# Altium footprint library Vishay Roederstein Electrolytic Solder Ring Capacitor.PcbLib: 11 footprints
Each footprint in its own frame and in the unit in brackets; x right, y up, seen from the top. Pads: shape width x height; smd on the part's side, far side on the other; paste and mask are expansions set on the pad; w line width, h text height; cw(c..) or ccw(c..) is an arc to the next point about the centre after c.
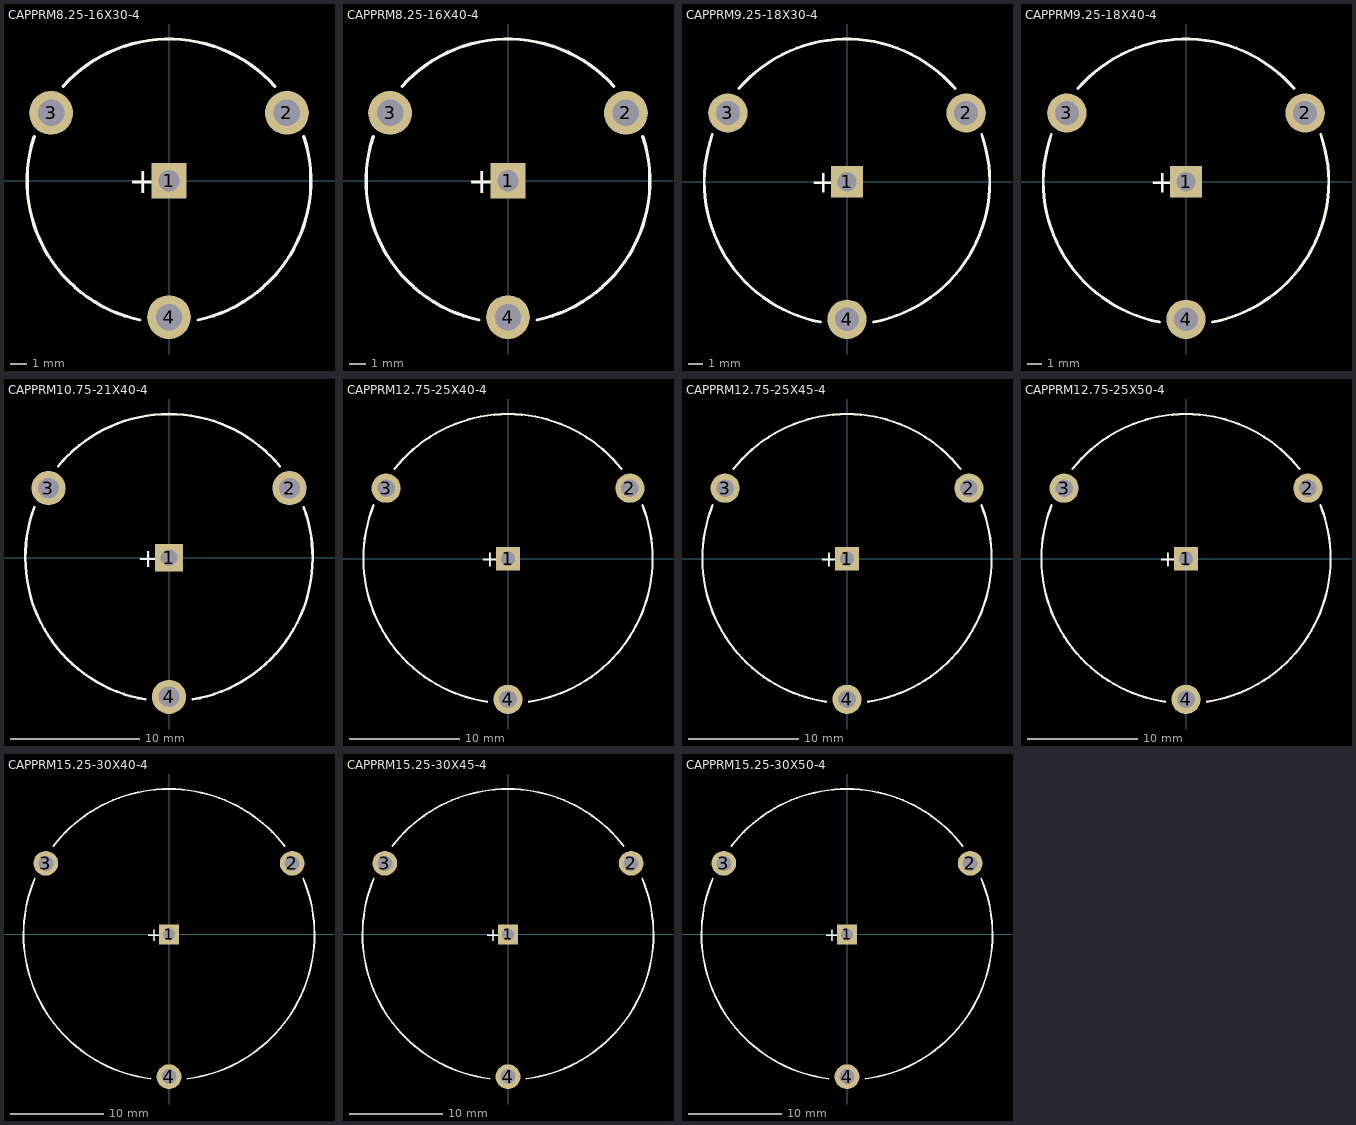
[diagram p0: the footprints below, top view; thin cyan lines are the x and y axes]

## CAPPRM8.25-16X30-4 [mm] "Capacitor, Electrolytic, Radial, Solder Ring; Body 16 x 30 mm (Dia.xH typ); Pin Spacing 8.25 mm (typ)"
height 32
pads (4):
  rect 2.15x2.15 hole 1.3: 1(0,0)
  round 2.65 hole 1.6: 2(7.145,4.125) 3(-7.145,4.125) 4(0,-8.25)
Top Overlay:
  lines w0.2: -8.168,2.692 ccw(c0,0) -1.752,-8.42 ; -6.415,5.727 cw(c0,0) 6.415,5.727 ; 1.752,-8.42 ccw(c0,0) 8.168,2.692
  text "+" at -2.45,-0.75 h1.5

## CAPPRM8.25-16X40-4 [mm] "Capacitor, Electrolytic, Radial, Solder Ring; Body 16 x 40 mm (Dia.xH typ); Pin Spacing 8.25 mm (typ)"
height 42
pads (4):
  rect 2.15x2.15 hole 1.3: 1(0,0)
  round 2.65 hole 1.6: 2(7.145,4.125) 3(-7.145,4.125) 4(0,-8.25)
Top Overlay:
  lines w0.2: -8.168,2.692 ccw(c0,0) -1.752,-8.42 ; -6.415,5.727 cw(c0,0) 6.415,5.727 ; 1.752,-8.42 ccw(c0,0) 8.168,2.692
  text "+" at -2.45,-0.75 h1.5

## CAPPRM9.25-18X30-4 [mm] "Capacitor, Electrolytic, Radial, Solder Ring; Body 18 x 30 mm (Dia.xH typ); Pin Spacing 9.25 mm (typ)"
height 32
pads (4):
  rect 2.15x2.15 hole 1.3: 1(0,0)
  round 2.65 hole 1.6: 2(8.011,4.625) 3(-8.011,4.625) 4(0,-9.25)
Top Overlay:
  lines w0.2: -9.062,3.17 ccw(c0,0) -1.786,-9.432 ; -7.276,6.263 cw(c0,0) 7.276,6.263 ; 1.786,-9.432 ccw(c0,0) 9.062,3.17
  text "+" at -2.45,-0.75 h1.5

## CAPPRM9.25-18X40-4 [mm] "Capacitor, Electrolytic, Radial, Solder Ring; Body 18 x 40 mm (Dia.xH typ); Pin Spacing 9.25 mm (typ)"
height 42
pads (4):
  rect 2.15x2.15 hole 1.3: 1(0,0)
  round 2.65 hole 1.6: 2(8.011,4.625) 3(-8.011,4.625) 4(0,-9.25)
Top Overlay:
  lines w0.2: -9.062,3.17 ccw(c0,0) -1.786,-9.432 ; -7.276,6.263 cw(c0,0) 7.276,6.263 ; 1.786,-9.432 ccw(c0,0) 9.062,3.17
  text "+" at -2.45,-0.75 h1.5

## CAPPRM10.75-21X40-4 [mm] "Capacitor, Electrolytic, Radial, Solder Ring; Body 21 x 40 mm (Dia.xH typ); Pin Spacing 10.75 mm (typ)"
height 42
pads (4):
  rect 2.15x2.15 hole 1.3: 1(0,0)
  round 2.65 hole 1.6: 2(9.31,5.375) 3(-9.31,5.375) 4(0,-10.75)
Top Overlay:
  lines w0.2: -10.398,3.883 ccw(c0,0) -1.836,-10.947 ; -8.562,7.064 cw(c0,0) 8.562,7.064 ; 1.836,-10.947 ccw(c0,0) 10.398,3.883
  text "+" at -2.45,-0.75 h1.5

## CAPPRM12.75-25X40-4 [mm] "Capacitor, Electrolytic, Radial, Solder Ring; Body 25 x 40 mm (Dia.xH typ); Pin Spacing 12.75 mm (typ)"
height 42
pads (4):
  rect 2.15x2.15 hole 1.3: 1(0,0)
  round 2.65 hole 1.6: 2(11.042,6.375) 3(-11.042,6.375) 4(0,-12.75)
Top Overlay:
  lines w0.2: -12.176,4.832 ccw(c0,0) -1.904,-12.961 ; -10.273,8.129 cw(c0,0) 10.273,8.129 ; 1.904,-12.961 ccw(c0,0) 12.176,4.832
  text "+" at -2.45,-0.75 h1.5

## CAPPRM12.75-25X45-4 [mm] "Capacitor, Electrolytic, Radial, Solder Ring; Body 25 x 45 mm (Dia.xH typ); Pin Spacing 12.75 mm (typ)"
height 48
pads (4):
  rect 2.15x2.15 hole 1.3: 1(0,0)
  round 2.65 hole 1.6: 2(11.042,6.375) 3(-11.042,6.375) 4(0,-12.75)
Top Overlay:
  lines w0.2: -12.176,4.832 ccw(c0,0) -1.904,-12.961 ; -10.273,8.129 cw(c0,0) 10.273,8.129 ; 1.904,-12.961 ccw(c0,0) 12.176,4.832
  text "+" at -2.45,-0.75 h1.5

## CAPPRM12.75-25X50-4 [mm] "Capacitor, Electrolytic, Radial, Solder Ring; Body 25 x 50 mm (Dia.xH typ); Pin Spacing 12.75 mm (typ)"
height 53
pads (4):
  rect 2.15x2.15 hole 1.3: 1(0,0)
  round 2.65 hole 1.6: 2(11.042,6.375) 3(-11.042,6.375) 4(0,-12.75)
Top Overlay:
  lines w0.2: -12.176,4.832 ccw(c0,0) -1.904,-12.961 ; -10.273,8.129 cw(c0,0) 10.273,8.129 ; 1.904,-12.961 ccw(c0,0) 12.176,4.832
  text "+" at -2.45,-0.75 h1.5

## CAPPRM15.25-30X40-4 [mm] "Capacitor, Electrolytic, Radial, Solder Ring; Body 30 x 40 mm (Dia.xH typ); Pin Spacing 15.25 mm (typ)"
height 42
pads (4):
  rect 2.15x2.15 hole 1.3: 1(0,0)
  round 2.65 hole 1.6: 2(13.207,7.625) 3(-13.207,7.625) 4(0,-15.25)
Top Overlay:
  lines w0.2: -14.394,6.014 ccw(c0,0) -1.989,-15.473 ; -12.405,9.459 cw(c0,0) 12.405,9.459 ; 1.989,-15.473 ccw(c0,0) 14.394,6.014
  text "+" at -2.45,-0.75 h1.5

## CAPPRM15.25-30X45-4 [mm] "Capacitor, Electrolytic, Radial, Solder Ring; Body 30 x 45 mm (Dia.xH typ); Pin Spacing 15.25 mm (typ)"
height 48
pads (4):
  rect 2.15x2.15 hole 1.3: 1(0,0)
  round 2.65 hole 1.6: 2(13.207,7.625) 3(-13.207,7.625) 4(0,-15.25)
Top Overlay:
  lines w0.2: -14.394,6.014 ccw(c0,0) -1.989,-15.473 ; -12.405,9.459 cw(c0,0) 12.405,9.459 ; 1.989,-15.473 ccw(c0,0) 14.394,6.014
  text "+" at -2.45,-0.75 h1.5

## CAPPRM15.25-30X50-4 [mm] "Capacitor, Electrolytic, Radial, Solder Ring; Body 30 x 50 mm (Dia.xH typ); Pin Spacing 15.25 mm (typ)"
height 53
pads (4):
  rect 2.15x2.15 hole 1.3: 1(0,0)
  round 2.65 hole 1.6: 2(13.207,7.625) 3(-13.207,7.625) 4(0,-15.25)
Top Overlay:
  lines w0.2: -14.394,6.014 ccw(c0,0) -1.989,-15.473 ; -12.405,9.459 cw(c0,0) 12.405,9.459 ; 1.989,-15.473 ccw(c0,0) 14.394,6.014
  text "+" at -2.45,-0.75 h1.5